# Altium footprint library QFN_DFN.PcbLib: 70 footprints (part 1 of 5)
Each footprint in its own frame and in the unit in brackets; x right, y up, seen from the top. Pads: shape width x height; smd on the part's side, far side on the other; paste and mask are expansions set on the pad; w line width, h text height; cw(c..) or ccw(c..) is an arc to the next point about the centre after c.
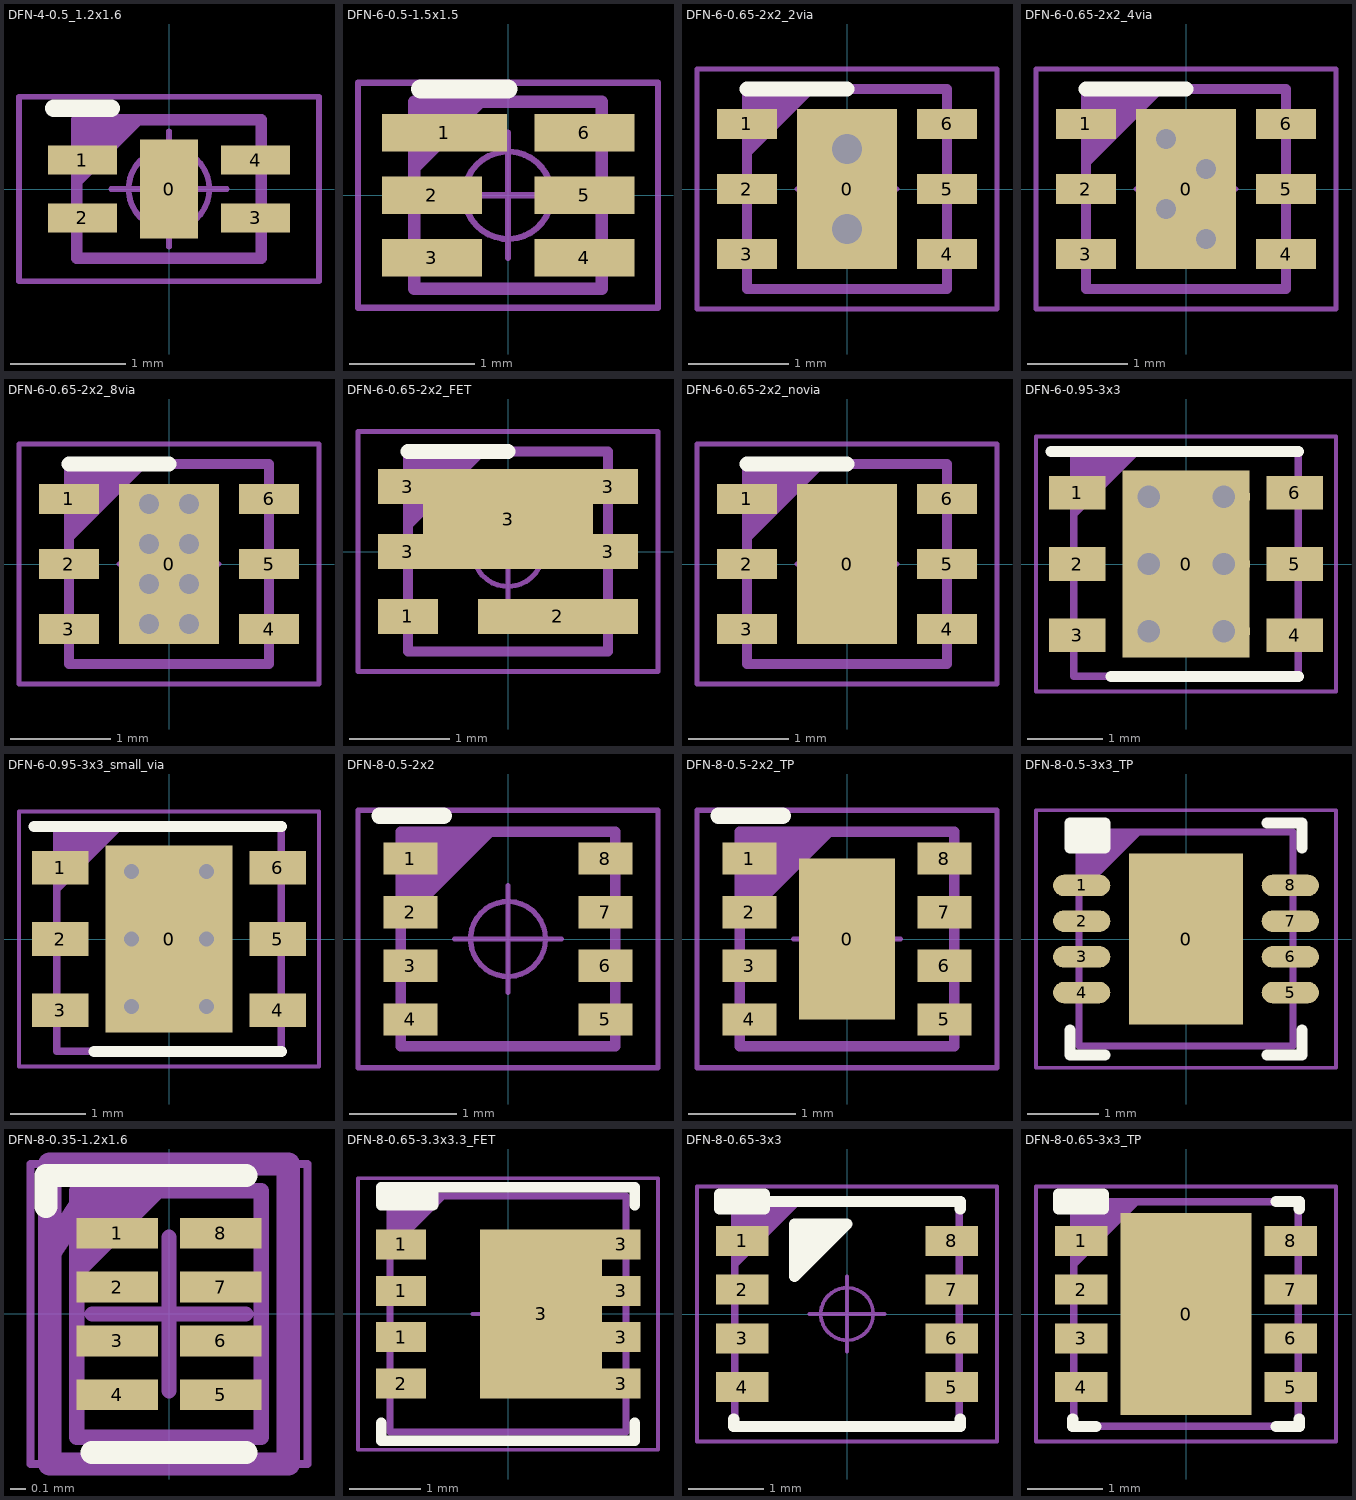
[diagram p0: the footprints below, top view; thin cyan lines are the x and y axes]

## DFN-4-0.5_1.2x1.6 [mm] "SON, 4-Leads, Body 1,20x1,60mm, Pitch 0,50mm, Thermal Pad 0,86x0,42mm, IPC Medium Density"
height 0.55
pads (5):
  rect 0.5x0.86 smd paste-0.21: 0(0,0)
  rect 0.6x0.25 smd: 1(-0.75,0.25) 2(-0.75,-0.25) 3(0.75,-0.25) 4(0.75,0.25)
Top Overlay:
  lines w0.15: -1,0.7 -0.5,0.7
Top Paste:
  rectangle: -0.165,-0.385 0.165,0.385
ASM Top:
  region: -0.8,0.6 -0.8,0 -0.2,0.6
  lines w0.1: -0.8,-0.6 -0.8,0.6 0.8,0.6 0.8,-0.6 -0.8,-0.6
  text ".Designator" at -0.525,-0.275 h0.45
PNP Top:
  circle w0.05: c0,0 r0.35
  lines w0.05: -0.5,0 0.5,0 ; 0,-0.5 0,0.5 ; -1.3,-0.8 -1.3,0.8 1.3,0.8 1.3,-0.8 -1.3,-0.8
3D body "SON50P160X55_HS-5N.step": height 0.55, standoff 0, extent -0.85,-0.6 0.85,0.6

## DFN-6-0.5-1.5x1.5 [mm] "SON, 6-Leads, Body 1,50x1,50mm, Pitch 0,50mm, IPC High Density"
height 0.75
pads (6):
  rect 1x0.3 smd: 1(-0.51,0.5)
  rect 0.8x0.3 smd: 2(-0.61,0) 3(-0.61,-0.5) 4(0.61,-0.5) 5(0.61,0) 6(0.61,0.5)
Top Overlay:
  lines w0.15: -0.7,0.85 0,0.85
ASM Top:
  region: -0.75,0.15 -0.75,0.75 -0.15,0.75
  lines w0.1: -0.75,-0.75 0.75,-0.75 0.75,0.75 -0.75,0.75 -0.75,-0.75
  text ".Designator" at -0.5,-0.225 h0.45
PNP Top:
  circle w0.05: c0,0 r0.35
  lines w0.05: -0.5,0 0.5,0 ; 0,-0.5 0,0.5 ; -1.2,-0.9 1.2,-0.9 1.2,0.9 -1.2,0.9 -1.2,-0.9
3D body "SON50P150X75-6L.step": height 0.75, standoff 0, extent -0.8,-0.75 0.8,0.75

## DFN-6-0.65-2x2_2via [mm] "QFN, 6-Leads, Body 2,00x2,00mm, Pitch 0,65mm, Thermal Pad 1,55x0,86mm, IPC Medium Density"
height 0.6
pads (7):
  rect 1x1.6 smd: 0(0,0)
  rect 0.6x0.3 smd: 1(-1,0.65) 2(-1.002,0) 3(-1,-0.65) 4(1,-0.65) 5(1.002,0) 6(1,0.65)
via 0,-0.4 diameter 0.7 hole 0.3
via 0,0.4 diameter 0.7 hole 0.3
Top Overlay:
  lines w0.15: -1,1 0,1
ASM Top:
  region: -1,0.3 -1,1 -0.3,1
  lines w0.1: -1,-1 1,-1 1,1 -1,1 -1,-1
  text ".Designator" at -0.3,-0.3 h0.45
PNP Top:
  circle w0.05: c0,0 r0.35
  lines w0.05: -0.5,0 0.5,0 ; 0,-0.5 0,0.5 ; -1.5,-1.2 1.5,-1.2 1.5,1.2 -1.5,1.2 -1.5,-1.2
3D body "DFN 6 2x2.step": height 0.75, standoff 0, extent -1.002,-1 1.002,1

## DFN-6-0.65-2x2_4via [mm] "QFN, 6-Leads, Body 2,00x2,00mm, Pitch 0,65mm, Thermal Pad 1,55x0,86mm, IPC Medium Density"
height 0.6
pads (7):
  rect 1x1.6 smd: 0(0,0)
  rect 0.6x0.3 smd: 1(-1,0.65) 2(-1.002,0) 3(-1,-0.65) 4(1,-0.65) 5(1.002,0) 6(1,0.65)
via -0.2,-0.2 diameter 0.4 hole 0.2
via 0.2,0.2 diameter 0.4 hole 0.2
via -0.2,0.5 diameter 0.4 hole 0.2
via 0.2,-0.5 diameter 0.4 hole 0.2
Top Overlay:
  lines w0.15: -1,1 0,1
ASM Top:
  region: -1,1 -1,0.2 -0.2,1
  lines w0.1: -1,-1 -1,1 1,1 1,-1 -1,-1
  text ".Designator" at -0.2,-0.125 h0.35
PNP Top:
  circle w0.05: c0,0 r0.35
  lines w0.05: -0.5,0 0.5,0 ; 0,-0.5 0,0.5 ; -1.5,-1.2 -1.5,1.2 1.5,1.2 1.5,-1.2 -1.5,-1.2
3D body "DFN 6 2x2.step": height 0.75, standoff 0, extent -1.002,-1 1.002,1

## DFN-6-0.65-2x2_8via [mm] "QFN, 6-Leads, Body 2,00x2,00mm, Pitch 0,65mm, Thermal Pad 1,55x0,86mm, IPC Medium Density"
height 0.6
pads (7):
  rect 1x1.6 smd: 0(0,0)
  rect 0.6x0.3 smd: 1(-1,0.65) 2(-1.002,0) 3(-1,-0.65) 4(1,-0.65) 5(1.002,0) 6(1,0.65)
via 0.2,0.6 diameter 0.4 hole 0.2
via -0.2,0.2 diameter 0.4 hole 0.2
via 0.2,0.2 diameter 0.4 hole 0.2
via -0.2,-0.2 diameter 0.4 hole 0.2
via 0.2,-0.2 diameter 0.4 hole 0.2
via -0.2,-0.6 diameter 0.4 hole 0.2
via 0.2,-0.6 diameter 0.4 hole 0.2
via -0.2,0.6 diameter 0.4 hole 0.2
Top Overlay:
  lines w0.15: -1,1 0,1
ASM Top:
  region: -1,1 -1,0.2 -0.2,1
  lines w0.1: -1,-1 1,-1 1,1 -1,1 -1,-1
  text ".Designator" at -0.2,-0.125 h0.35
PNP Top:
  circle w0.05: c0,0 r0.35
  lines w0.05: -0.5,0 0.5,0 ; 0,-0.5 0,0.5 ; -1.5,-1.2 1.5,-1.2 1.5,1.2 -1.5,1.2 -1.5,-1.2
3D body "DFN 6 2x2.step": height 0.75, standoff 0, extent -1.002,-1 1.002,1

## DFN-6-0.65-2x2_FET [mm] "QFN, 6-Leads, Body 2,00x2,00mm, Pitch 0,65mm, Thermal Pad 1,55x0,86mm, IPC Medium Density"
height 0.6
pads (7):
  rect 0.6x0.35 smd: 1(-1,-0.65) 3(-1.002,0) 3(-1,0.65) 3(1,0.65) 3(1.002,0)
  rect 1.6x0.35 smd: 2(0.5,-0.65)
  rect 1.7x1 smd: 3(0,0.325)
Top Overlay:
  lines w0.15: -1,1 0,1
ASM Top:
  region: -1,1 -1,0.2 -0.2,1
  lines w0.1: -1,-1 1,-1 1,1 -1,1 -1,-1
  text ".Designator" at -0.2,-0.125 h0.35
PNP Top:
  circle w0.05: c0,0 r0.35
  lines w0.05: -0.5,0 0.5,0 ; 0,-0.5 0,0.5 ; -1.5,-1.2 1.5,-1.2 1.5,1.2 -1.5,1.2 -1.5,-1.2
3D body "DFN 6 2x2.step": height 0.75, standoff 0, extent -1.002,-1 1.002,1

## DFN-6-0.65-2x2_novia [mm] "QFN, 6-Leads, Body 2,00x2,00mm, Pitch 0,65mm, Thermal Pad 1,55x0,86mm, IPC Medium Density"
height 0.6
pads (7):
  rect 1x1.6 smd: 0(0,0)
  rect 0.6x0.3 smd: 1(-1,0.65) 2(-1.002,0) 3(-1,-0.65) 4(1,-0.65) 5(1.002,0) 6(1,0.65)
Top Overlay:
  lines w0.15: -1,1 0,1
ASM Top:
  region: -1,1 -1,0.2 -0.2,1
  lines w0.1: -1,-1 1,-1 1,1 -1,1 -1,-1
  text ".Designator" at -0.4,-0.3 h0.45
PNP Top:
  circle w0.05: c0,0 r0.35
  lines w0.05: -0.5,0 0.5,0 ; 0,-0.5 0,0.5 ; -1.5,-1.2 1.5,-1.2 1.5,1.2 -1.5,1.2 -1.5,-1.2
3D body "DFN 6 2x2.step": height 0.75, standoff 0, extent -1.002,-1 1.002,1

## DFN-6-0.95-3x3 [mm] "SON, 6-Leads, Body 3,00x3,00mm, Pitch 0,95mm, Thermal Pad 2,50x1,72mm, IPC High Density"
height 0.8
pads (7):
  rect 1.7x2.5 smd: 0(0,0)
  rect 0.75x0.45 smd: 1(-1.45,0.95) 2(-1.45,0) 3(-1.45,-0.95) 4(1.45,-0.95) 5(1.45,0) 6(1.45,0.95)
via 0.5,0 diameter 0.7 hole 0.3
via -0.498,0.899 diameter 0.7 hole 0.3
via 0.502,0.899 diameter 0.7 hole 0.3
via -0.5,0 diameter 0.7 hole 0.3
via 0.502,-0.899 diameter 0.7 hole 0.3
via -0.498,-0.899 diameter 0.7 hole 0.3
Top Overlay:
  lines w0.15: -1.8,1.5 1.5,1.5 ; -1,-1.5 1.5,-1.5
ASM Top:
  region: -1.5,1.5 -1.5,0.6 -0.6,1.5
  lines w0.1: -1.5,-1.5 -1.5,1.5 1.5,1.5 1.5,-1.5 -1.5,-1.5
  text ".Designator" at -0.6,-0.4 h0.5
PNP Top:
  circle w0.05: c0,0 r0.35
  lines w0.05: -0.5,0 0.5,0 ; 0,-0.5 0,0.5 ; -2,-1.7 -2,1.7 2,1.7 2,-1.7 -2,-1.7
3D body "SON95P300X80_HS-7L.step": height 0.8, standoff 0, extent -1.52,-1.5 1.52,1.5

## DFN-6-0.95-3x3_small_via [mm] "SON, 6-Leads, Body 3,00x3,00mm, Pitch 0,95mm, Thermal Pad 2,50x1,72mm, IPC High Density"
height 0.8
pads (7):
  rect 1.7x2.5 smd: 0(0,0)
  rect 0.75x0.45 smd: 1(-1.45,0.95) 2(-1.45,0) 3(-1.45,-0.95) 4(1.45,-0.95) 5(1.45,0) 6(1.45,0.95)
via 0.5,0 diameter 0.4 hole 0.2
via -0.498,0.899 diameter 0.4 hole 0.2
via 0.502,0.899 diameter 0.4 hole 0.2
via -0.5,0 diameter 0.4 hole 0.2
via 0.502,-0.899 diameter 0.4 hole 0.2
via -0.498,-0.899 diameter 0.4 hole 0.2
Top Overlay:
  lines w0.15: -1.8,1.5 1.5,1.5 ; -1,-1.5 1.5,-1.5
ASM Top:
  region: -1.5,1.5 -1.5,0.6 -0.6,1.5
  lines w0.1: -1.5,-1.5 -1.5,1.5 1.5,1.5 1.5,-1.5 -1.5,-1.5
  text ".Designator" at -0.85,-0.8 h0.5
PNP Top:
  circle w0.05: c0,0 r0.35
  lines w0.05: -0.5,0 0.5,0 ; 0,-0.5 0,0.5 ; -2,-1.7 -2,1.7 2,1.7 2,-1.7 -2,-1.7
3D body "SON95P300X80_HS-7L.step": height 0.8, standoff 0, extent -1.52,-1.5 1.52,1.5

## DFN-8-0.5-2x2 [mm] "PSON, 8-Leads, Body 2,00x2,00mm, Pitch 0,50mm, Thermal Pad 1,50x0,90mm, IPC Medium Density"
height 0.6
pads (8):
  rect 0.5x0.3 smd: 1(-0.91,0.75) 2(-0.91,0.25) 3(-0.91,-0.25) 4(-0.91,-0.75) 5(0.91,-0.75) 6(0.91,-0.25) 7(0.91,0.25) 8(0.91,0.75)
Top Overlay:
  lines w0.15: -1.2,1.15 -0.6,1.15
ASM Top:
  region: -1,1 -1,0.1 -0.1,1
  lines w0.1: -1,-1 -1,1 1,1 1,-1 -1,-1
  text ".Designator" at -0.6,-0.4 h0.5
PNP Top:
  circle w0.05: c0,0 r0.35
  lines w0.05: -0.5,0 0.5,0 ; 0,-0.5 0,0.5 ; -1.4,-1.2 -1.4,1.2 1.4,1.2 1.4,-1.2 -1.4,-1.2
3D body "PSON50P200X60_HS-9N.step": height 0.6, standoff 0, extent -1.001,-1 1.001,1

## DFN-8-0.5-2x2_TP [mm] "PSON, 8-Leads, Body 2,00x2,00mm, Pitch 0,50mm, Thermal Pad 1,50x0,90mm, IPC Medium Density"
height 0.6
pads (9):
  rect 0.9x1.5 smd: 0(0,0)
  rect 0.5x0.3 smd: 1(-0.91,0.75) 2(-0.91,0.25) 3(-0.91,-0.25) 4(-0.91,-0.75) 5(0.91,-0.75) 6(0.91,-0.25) 7(0.91,0.25) 8(0.91,0.75)
Top Overlay:
  lines w0.15: -1.2,1.15 -0.6,1.15
ASM Top:
  region: -1,1 -1,0.1 -0.1,1
  lines w0.1: -1,-1 1,-1 1,1 -1,1 -1,-1
  text ".Designator" at -0.7,-0.3 h0.5
PNP Top:
  circle w0.05: c0,0 r0.35
  lines w0.05: -0.5,0 0.5,0 ; 0,-0.5 0,0.5 ; -1.4,-1.2 1.4,-1.2 1.4,1.2 -1.4,1.2 -1.4,-1.2
3D body "PSON50P200X60_HS-9N.step": height 0.6, standoff 0, extent -1.001,-1 1.001,1

## DFN-8-0.5-3x3_TP [mm] "SON, 8-Leads, Body 3,00x3,00mm, Pitch 0,50mm, Thermal Pad 1,60x1,60mm, IPC Medium Density"
height 0.8
pads (9):
  rect 1.6x2.4 smd: 0(0,0)
  oval 0.8x0.3 smd: 1(-1.46,0.75) 2(-1.46,0.25) 3(-1.46,-0.25) 4(-1.46,-0.75) 5(1.46,-0.75) 6(1.46,-0.25) 7(1.46,0.25) 8(1.46,0.75)
Top Overlay:
  lines w0.15: -1.625,-1.275 -1.625,-1.625 -1.135,-1.625 ; -1.625,1.4 -1.135,1.4 ; -1.625,1.5 -1.135,1.5 ; 1.135,-1.625 1.625,-1.625 1.625,-1.275 ; 1.135,1.625 1.625,1.625 1.625,1.275 ; -1.625,1.275 -1.135,1.275 -1.135,1.625 -1.625,1.625 -1.625,1.275
ASM Top:
  region: -1.5,1.5 -1.5,0.6 -0.6,1.5
  lines w0.1: -1.5,-1.5 -1.5,1.5 1.5,1.5 1.5,-1.5 -1.5,-1.5
  text ".Designator" at -0.5,-0.5 h0.5
PNP Top:
  circle w0.05: c0,0 r0.35
  lines w0.05: -0.5,0 0.5,0 ; 0,-0.5 0,0.5 ; -2.1,-1.8 -2.1,1.8 2.1,1.8 2.1,-1.8 -2.1,-1.8
3D body "DFN-8-0.5-3x3_TP.step": height 0.8, standoff 0, extent -1.55,-1.5 1.55,1.5

## DFN-8-0.35-1.2x1.6 [mm] "X2SON"
height 0.4
pads (8):
  rect 0.53x0.2 smd: 1(-0.335,0.525) 2(-0.335,0.175) 3(-0.335,-0.175) 4(-0.335,-0.525) 5(0.335,-0.525) 6(0.335,-0.175) 7(0.335,0.175) 8(0.335,0.525)
Top Overlay:
  lines w0.15: -0.8,0.7 -0.8,0.9 0.5,0.9 ; -0.5,-0.9 0.5,-0.9
Mechanical 6:
  lines w0.15: -0.775,0.4 -0.4,0.975 ; -0.775,-0.975 -0.775,0.975 0.775,0.975 0.775,-0.975 -0.775,-0.975
ASM Top:
  region: -0.6,0.8 -0.6,0.2 0,0.8
  lines w0.1: -0.6,-0.8 -0.6,0.8 0.6,0.8 0.6,-0.8 -0.6,-0.8
  text ".Designator" at -0.35,-0.15 h0.25
PNP Top:
  lines w0.05: -0.9,-0.975 -0.9,0.975 0.9,0.975 0.9,-0.975 -0.9,-0.975
  lines w0.1: -0.5,0 0.5,0 ; 0,-0.5 0,0.5
3D body: height 0.4, standoff 0.4, extent -0.4,0.4 -0.2,0.599
3D body: height 0.4, standoff 0, extent -0.5,-0.7 0.5,0.7

## DFN-8-0.65-3.3x3.3_FET [mm] "SON, 8-Leads, Body 3,30x3,30mm, Pitch 0,65mm, IPC Medium Density"
height 0.8
pads (9):
  rect 0.7x0.42 smd: 1(-1.498,-0.325) 1(-1.498,0.325) 1(-1.498,0.975) 2(-1.498,-0.975)
  rect 1.71x2.37 smd: 3(0.463,0)
  rect 0.54x0.42 smd: 3(1.585,-0.975) 3(1.585,-0.325) 3(1.585,0.325) 3(1.585,0.975)
Top Overlay:
  lines w0.15: -1.775,-1.525 -1.775,-1.775 1.775,-1.775 1.775,-1.525 ; -1.775,1.65 -1.05,1.65 ; -1.05,1.775 -1.05,1.525 -1.775,1.525 -1.775,1.775 1.775,1.775 1.775,1.525
ASM Top:
  region: -1.65,1.65 -1.65,0.85 -0.85,1.65
  lines w0.1: -1.65,-1.65 1.65,-1.65 1.65,1.65 -1.65,1.65 -1.65,-1.65
  text ".Designator" at -0.7,-0.3 h0.5
PNP Top:
  circle w0.05: c0,0 r0.35
  lines w0.05: -0.5,0 0.5,0 ; 0,-0.5 0,0.5 ; -2.1,-1.9 2.1,-1.9 2.1,1.9 -2.1,1.9 -2.1,-1.9
3D body: height 0.1, standoff 0, extent -0.4,-1.15 1.3,1.15
3D body "SON65P330X80-8N.step": height 0.8, standoff 0, extent -1.67,-1.65 1.67,1.65

## DFN-8-0.65-3x3 [mm]
pads (8):
  rect 0.7x0.4 smd: 1(-1.4,0.975) 2(-1.4,0.325) 3(-1.4,-0.325) 4(-1.4,-0.975) 5(1.4,-0.975) 6(1.4,-0.325) 7(1.4,0.325) 8(1.4,0.975)
Top Overlay:
  lines w0.15: -1.51,-1.4 -1.51,-1.5 1.51,-1.5 1.51,-1.4 ; -0.6,0.7 -0.6,1.2 ; -0.5,0.8 -0.5,1.2 ; -0.4,0.9 -0.4,1.2 ; -0.3,0.9 -0.3,1.2 ; -0.2,1 -0.2,1.2 ; 1.51,1.4 1.51,1.5 -1.7,1.5 ; -1.7,1.5 -1.7,1.4 -1.1,1.4 -1.1,1.6 -1.7,1.6 -1.7,1.5 ; -0.7,0.5 0,1.2 -0.7,1.2 -0.7,0.5
ASM Top:
  region: -1.5,1.5 -1.5,0.6 -0.6,1.5
  lines w0.1: -1.5,-1.5 1.5,-1.5 1.5,1.5 -1.5,1.5 -1.5,-1.5
  text ".Designator" at -0.9,-0.4 h0.5
PNP Top:
  circle w0.05: c0,0 r0.35
  lines w0.05: -0.5,0 0.5,0 ; 0,-0.5 0,0.5 ; -2,-1.7 2,-1.7 2,1.7 -2,1.7 -2,-1.7
3D body "QFN-8.STEP": height 0.9, standoff 0, extent -1.501,-1.5 1.501,1.5

## DFN-8-0.65-3x3_TP [mm]
pads (9):
  rect 1.75x2.7 smd: 0(0,0)
  rect 0.7x0.4 smd: 1(-1.4,0.975) 2(-1.4,0.325) 3(-1.4,-0.325) 4(-1.4,-0.975) 5(1.4,-0.975) 6(1.4,-0.325) 7(1.4,0.325) 8(1.4,0.975)
Top Overlay:
  lines w0.15: -1.51,1.4 -1.51,1.5 -1.2,1.5 ; -1.3,1.5 -1.7,1.5 ; -1.2,-1.5 -1.51,-1.5 ; 1.2,-1.5 1.51,-1.5 ; 1.2,1.5 1.51,1.5 ; -1.7,1.5 -1.7,1.6 -1.1,1.6 -1.1,1.4 -1.7,1.4 -1.7,1.5 ; -1.51,-1.5 -1.51,-1.4 -1.51,-1.5 ; 1.51,-1.5 1.51,-1.4 1.51,-1.5 ; 1.51,1.5 1.51,1.4 1.51,1.5
ASM Top:
  region: -1.5,1.5 -1.5,0.6 -0.6,1.5
  lines w0.1: -1.5,-1.5 1.5,-1.5 1.5,1.5 -1.5,1.5 -1.5,-1.5
  text ".Designator" at -1.15,-0.1 h0.5
PNP Top:
  circle w0.05: c0,0 r0.35
  lines w0.05: -0.5,0 0.5,0 ; 0,-0.5 0,0.5 ; -2,-1.7 2,-1.7 2,1.7 -2,1.7 -2,-1.7
3D body "QFN-8.STEP": height 0.9, standoff 0, extent -1.501,-1.5 1.501,1.5